# EAGLE library part LTC4063 (library lea_components)
LTC4063 - Standalone Linear Li-Ion Charger with Micropower Low Dropout Linear Regulator
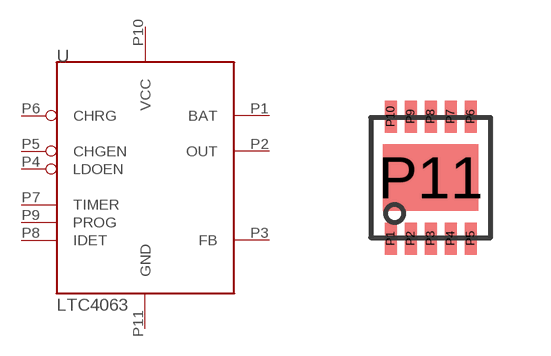
[diagram p1: symbol with the pads of LTC4063; footprint LTC4063]

Designator prefix U

## LTC4063EDD (DIGIKEY#: LTC4063EDD#PBF-ND)  [LTC4063]
P1  BAT  out
P2  OUT  out
P3  FB  pas
P4  LDOEN  in
P5  CHGEN  in
P6  CHRG  out
P7  TIMER  pas
P8  IDET  pas
P9  PROG  pas
P10  VCC  pwr
P11  GND  sup

## Footprint LTC4063 (pad centres in mm)
smd 0.3 x 0.8: P1 -1,-1.525; P2 -0.5,-1.525; P3 0,-1.525; P4 0.5,-1.525; P5 1,-1.525; P6 1,1.525; P7 0.5,1.525; P8 0,1.525; P9 -0.5,1.525; P10 -1,1.525
smd 2.38 x 1.65: P11 0,0